# Altium footprint library Mounting_hole.PcbLib: 2 footprints
Each footprint in its own frame and in the unit in brackets; x right, y up, seen from the top. Pads: shape width x height; smd on the part's side, far side on the other; paste and mask are expansions set on the pad; w line width, h text height; cw(c..) or ccw(c..) is an arc to the next point about the centre after c.
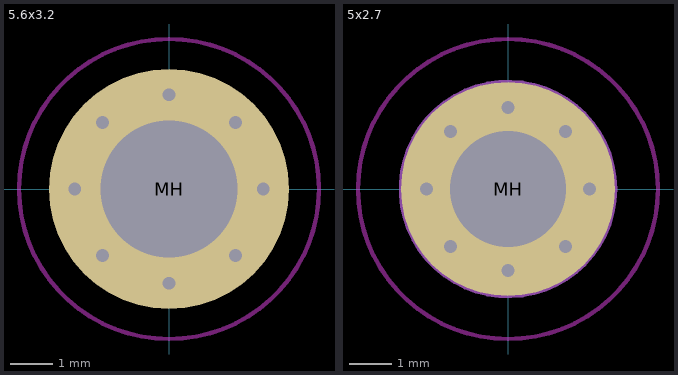
[diagram p0: the footprints below, top view; thin cyan lines are the x and y axes]

## 5.6x3.2 [mm]
pads (1):
  round 5.6 hole 3.2: MH(0,0)
via 0,2.2 diameter 0.65 hole 0.3
via -1.556,1.556 diameter 0.65 hole 0.3
via -2.2,0 diameter 0.65 hole 0.3
via -1.556,-1.556 diameter 0.65 hole 0.3
via 0,-2.2 diameter 0.65 hole 0.3
via 1.556,-1.556 diameter 0.65 hole 0.3
via 2.2,0 diameter 0.65 hole 0.3
via 1.556,1.556 diameter 0.65 hole 0.3
Keep-Out Layer:
  circle w0.1: c0,0 r3.5
Top Courtyard (Mech6):
  circle w0.1: c0,0 r2.5
  lines w0.153: -0.425,0 0.425,0 ; 0,-0.425 0,0.425

## 5x2.7 [mm]
pads (1):
  round 5 hole 2.7: MH(0,0)
via 1.344,1.344 diameter 0.65 hole 0.3
via 0,1.9 diameter 0.65 hole 0.3
via -1.344,1.344 diameter 0.65 hole 0.3
via -1.9,0 diameter 0.65 hole 0.3
via -1.344,-1.344 diameter 0.65 hole 0.3
via 0,-1.9 diameter 0.65 hole 0.3
via 1.344,-1.344 diameter 0.65 hole 0.3
via 1.9,0 diameter 0.65 hole 0.3
Keep-Out Layer:
  circle w0.1: c0,0 r3.5
Top Courtyard (Mech6):
  circle w0.1: c0,0 r2.5
  lines w0.153: -0.425,0 0.425,0 ; 0,-0.425 0,0.425